# Altium footprint library mylib.PcbLib: 33 footprints (part 1 of 3)
Each footprint in its own frame and in the unit in brackets; x right, y up, seen from the top. Pads: shape width x height; smd on the part's side, far side on the other; paste and mask are expansions set on the pad; w line width, h text height; cw(c..) or ccw(c..) is an arc to the next point about the centre after c.
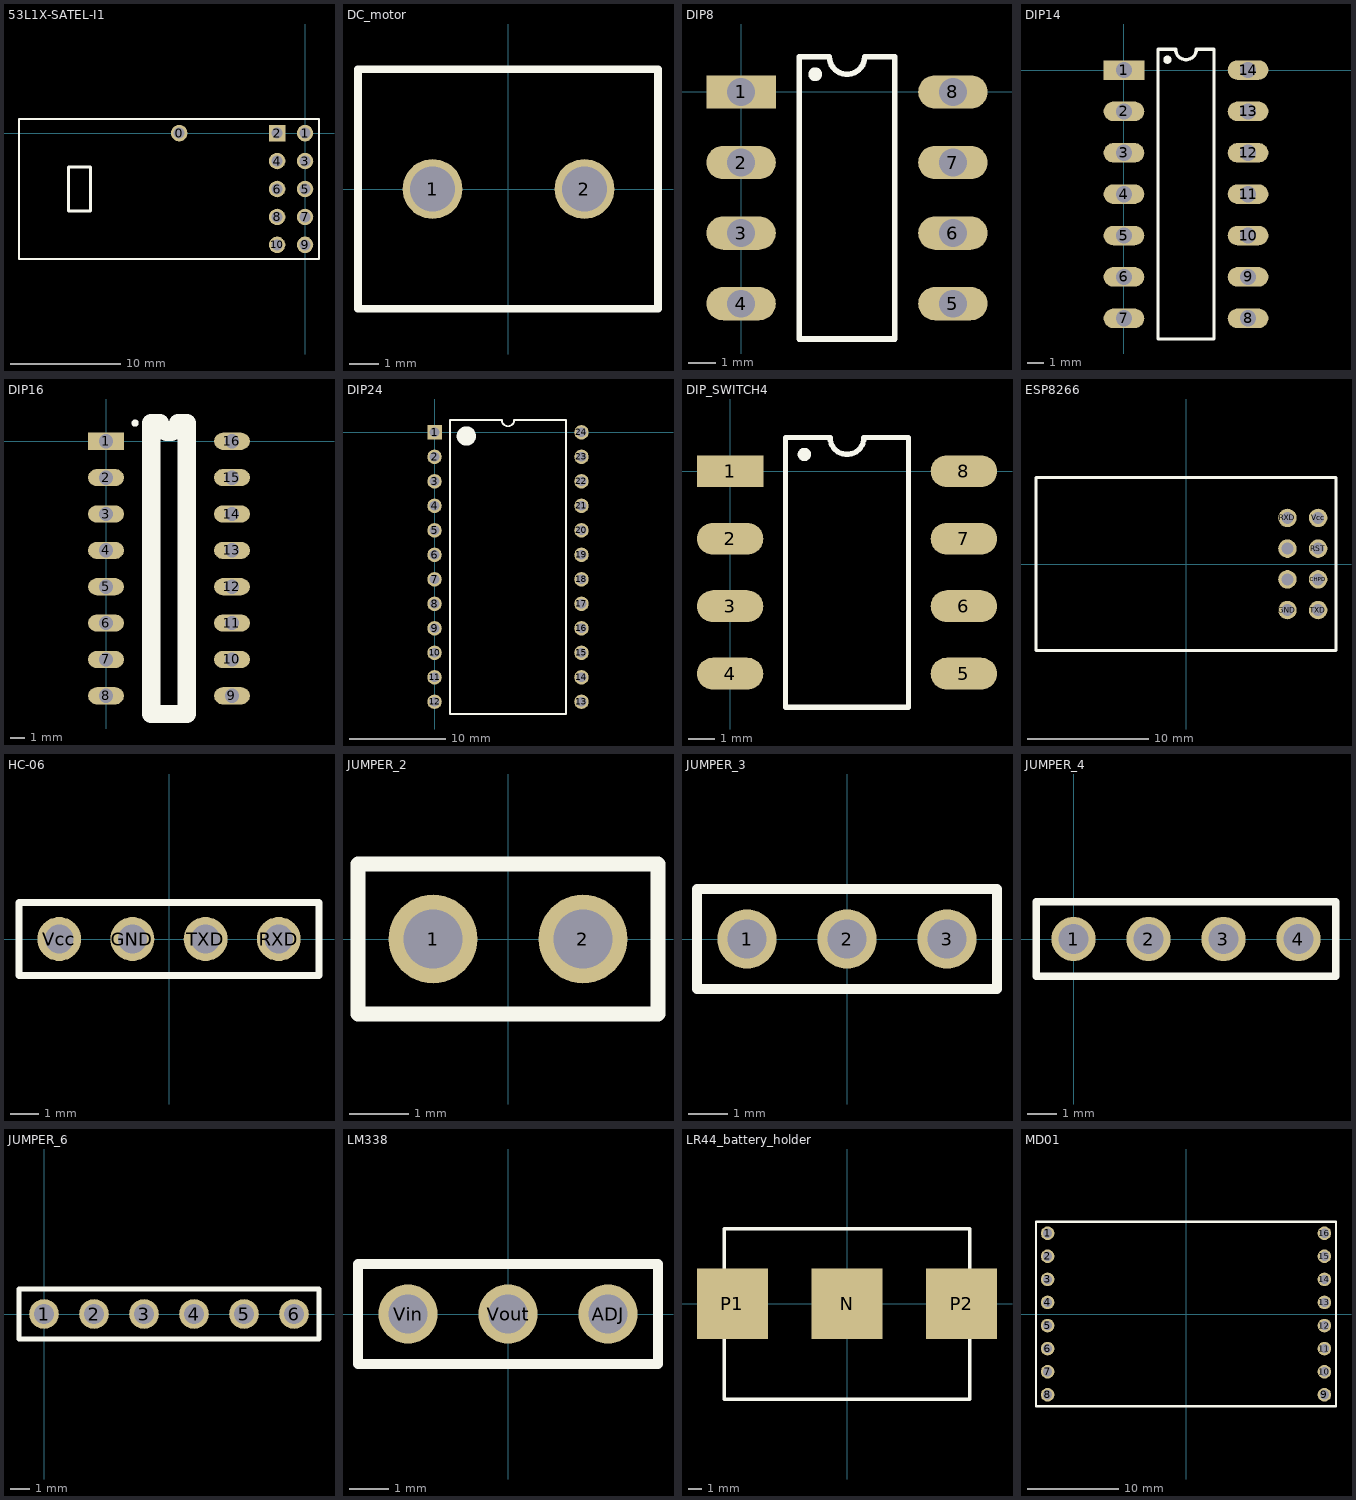
[diagram p0: the footprints below, top view; thin cyan lines are the x and y axes]

## 53L1X-SATEL-I1 [mm] "53L1X-SATEL-I1 breakout board"
pads (11):
  round 1.5 hole 1: 0(-11.44,0) 1(0,0) 3(0,-2.54) 4(-2.54,-2.54) 5(0,-5.08) 6(-2.54,-5.08) 7(0,-7.62) 8(-2.54,-7.62) 9(0,-10.16) 10(-2.54,-10.16)
  rect 1.5x1.5 hole 1: 2(-2.54,0)
Top Overlay:
  lines w0.2: -26,-11.43 -26,1.27 1.27,1.27 1.27,-11.43 -26,-11.43
  lines w0.254: -21.5,-7.08 -21.5,-3.08 -19.5,-3.08 -19.5,-7.08 -21.5,-7.08

## DC_motor [mm]
pads (2):
  round 2 hole 1.5: 1(-2.54,0) 2(2.54,0)
Top Overlay:
  lines w0.254: -5.033,-4 -5.033,4 ; -5,-4 5,-4 5,4 ; 5,4 -5,4 5,4

## DIP8 [mm]
pads (8):
  rect 2.5x1.2 hole 1: 1(0,0)
  oval 2.5x1.2 hole 1: 2(0,-2.54) 3(0,-5.08) 4(0,-7.62) 5(7.62,-7.62) 6(7.62,-5.08) 7(7.62,-2.54) 8(7.62,0)
Top Overlay:
  circle w0.25: c2.667,0.635 r0.125
  lines w0.2: 2.085,-8.89 2.085,1.27 3.175,1.27 ccw(c3.81,1.27) 4.445,1.27 5.535,1.27 5.535,-8.89 2.085,-8.89

## DIP14 [mm]
pads (14):
  rect 2.5x1.2 hole 1: 1(0,0)
  oval 2.5x1.2 hole 1: 2(0,-2.54) 3(0,-5.08) 4(0,-7.62) 5(0,-10.16) 6(0,-12.7) 7(0,-15.24) 8(7.62,-15.24) 9(7.62,-12.7) 10(7.62,-10.16) 11(7.62,-7.62) 12(7.62,-5.08) 13(7.62,-2.54) 14(7.62,0)
Top Overlay:
  circle w0.25: c2.667,0.635 r0.125
  lines w0.2: 2.085,-16.51 5.535,-16.51 5.535,1.27 4.445,1.27 cw(c3.81,1.27) 3.175,1.27 2.085,1.27 2.085,-16.51

## DIP16 [mm]
pads (16):
  rect 2.5x1.2 hole 1: 1(0,0)
  oval 2.5x1.2 hole 1: 2(0,-2.54) 3(0,-5.08) 4(0,-7.62) 5(0,-10.16) 6(0,-12.7) 7(0,-15.24) 8(0,-17.78) 9(8.8,-17.78) 10(8.8,-15.24) 11(8.8,-12.7) 12(8.8,-10.16) 13(8.8,-7.62) 14(8.8,-5.08) 15(8.8,-2.54) 16(8.8,0)
Top Overlay:
  circle w0.25: c2.032,1.27 r0.125
  lines w1.27: 3.155,-19.05 3.155,1.27 3.765,1.27 ccw(c4.4,1.27) 5.035,1.27 5.645,1.27 5.645,-19.05 3.155,-19.05

## DIP24 [mm]
pads (24):
  rect 1.5x1.5 hole 1: 1(0,0)
  round 1.5 hole 1: 2(0,-2.54) 3(0,-5.08) 4(0,-7.62) 5(0,-10.16) 6(0,-12.7) 7(0,-15.24) 8(0,-17.78) 9(0,-20.32) 10(0,-22.86) 11(0,-25.4) 12(0,-27.94) 13(15.24,-27.94) 14(15.24,-25.4) 15(15.24,-22.86) 16(15.24,-20.32) 17(15.24,-17.78) 18(15.24,-15.24) 19(15.24,-12.7) 20(15.24,-10.16) 21(15.24,-7.62) 22(15.24,-5.08) 23(15.24,-2.54) 24(15.24,0)
Top Overlay:
  circle w1: c3.302,-0.381 r0.5
  lines w0.2: 1.585,-29.21 13.655,-29.21 13.655,1.27 8.255,1.27 cw(c7.62,1.27) 6.985,1.27 1.585,1.27 1.585,-29.21

## DIP_SWITCH4 [mm]
pads (8):
  rect 2.5x1.2 smd: 1(0,0)
  oval 2.5x1.2 smd: 2(0,-2.54) 3(0,-5.08) 4(0,-7.62) 5(8.8,-7.62) 6(8.8,-5.08) 7(8.8,-2.54) 8(8.8,0)
Top Overlay:
  circle w0.25: c2.794,0.635 r0.125
  lines w0.2: 2.085,-8.89 6.715,-8.89 6.715,1.27 5.035,1.27 cw(c4.4,1.27) 3.765,1.27 2.085,1.27 2.085,-8.89

## ESP8266 [mil]
pads (8):
  round 60 hole 39.37: CHPD(430,-50) GND(330,-150) GPIO0(330,50) GPIO2(330,-50) RST(430,50) RXD(330,150) TXD(430,-150) Vcc(430,150)
Top Overlay:
  lines w10: -488.19,-281.5 -488.19,281.5 488.19,281.5 488.19,-281.5 -488.19,-281.5

## HC-06 [mil]
pads (4):
  round 60 hole 39.37: GND(-50,0) RXD(150,0) TXD(50,0) Vcc(-150,0)
Top Overlay:
  lines w10: -205,-50 -205,50 205,50 205,-50 -205,-50

## JUMPER_2 [mm]
pads (2):
  round 1.5 hole 1: 1(-1.27,0) 2(1.27,0)
Top Overlay:
  lines w0.254: -2.54,-1.27 -2.54,1.27 2.54,1.27 2.54,-1.27 -2.54,-1.27

## JUMPER_3 [mm]
pads (3):
  round 1.5 hole 1: 1(-2.54,0) 2(0,0) 3(2.54,0)
Top Overlay:
  lines w0.254: -3.81,-1.27 3.81,-1.27 3.81,1.27 -3.81,1.27 -3.81,-1.27

## JUMPER_4 [mm]
pads (4):
  round 1.5 hole 1: 1(0,0) 2(2.54,0) 3(5.08,0) 4(7.62,0)
Top Overlay:
  lines w0.254: -1.27,-1.27 -1.27,1.27 8.89,1.27 8.89,-1.27 -1.27,-1.27

## JUMPER_6 [mm]
pads (6):
  round 1.5 hole 1: 1(0,0) 2(2.54,0) 3(5.08,0) 4(7.62,0) 5(10.16,0) 6(12.7,0)
Top Overlay:
  lines w0.254: -1.27,-1.27 13.97,-1.27 13.97,1.27 -1.27,1.27 -1.27,-1.27

## LM338 [mm] "LM338 Voltage regulator"
pads (3):
  round 1.5 hole 1: ADJ(2.54,0) Vin(-2.54,0) Vout(0,0)
Top Overlay:
  lines w0.254: -3.81,-1.27 -3.81,1.27 3.81,1.27 3.81,-1.27 -3.81,-1.27

## LR44_battery_holder [mm]
pads (3):
  rect 5.2x5.2 smd: N(0,0) P1(-8.4,0) P2(8.4,0)
Top Overlay:
  lines w0.254: -9,-7 -9,5.5 9,5.5 9,-7 -9,-7

## MD01 [mm] "Motor controller"
pads (16):
  round 1.5 hole 1: 1(-15.25,8.9) 2(-15.25,6.36) 3(-15.25,3.82) 4(-15.25,1.28) 5(-15.25,-1.28) 6(-15.25,-3.82) 7(-15.25,-6.36) 8(-15.25,-8.9) 9(15.25,-8.9) 10(15.25,-6.36) 11(15.25,-3.82) 12(15.25,-1.28) 13(15.25,1.28) 14(15.25,3.82) 15(15.25,6.36) 16(15.25,8.9)
Top Overlay:
  lines w0.254: -16.53,-10.18 -16.53,10.18 16.53,10.18 16.53,-10.18 -16.53,-10.18